# EAGLE library part MICROSD_SPI_MODE (library Molex SD-47309 SD Card Slot)
MOLEX - 49225-0821 - CONNECTEUR MICRO SD PUSH/PUSH REV Fabricant: MOLEX Code commande Farnell: 1366700 <http://fr.farnell.com/molex/49225-0821/connecteur-micro-sd-push-push-rev/dp/1366700?Ntt=1366700> Référence fabricant: 49225-0821
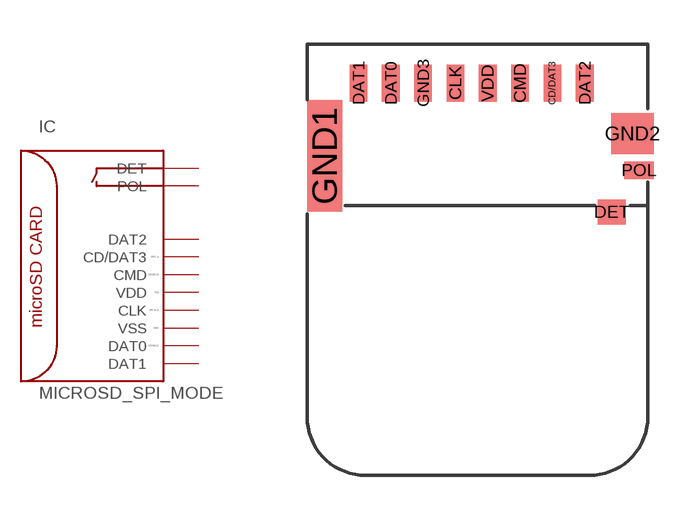
[diagram p0: symbol with the pads of MICRO_SD_CONNECTOR; footprint MICRO_SD_CONNECTOR]

Designator prefix IC

## MICROSD_SPI_MODE  [MICRO_SD_CONNECTOR]
CD/DAT3  CD/DAT3  in
CLK  CLK  in
CMD  CMD  in
DAT0  DAT0  out
DAT1  DAT1  nc
DAT2  DAT2  nc
DET  DET  hiz
GND1  VSS  pwr
GND2  VSS  pwr
GND3  VSS  pwr
POL  POL  hiz
VDD  VDD  pwr

## Footprint MICRO_SD_CONNECTOR (pad centres in mm)
smd 0.6 x 1.25: CD/DAT3 2.75,-1.33; CLK -0.55,-1.33; CMD 1.65,-1.33; DAT0 -2.75,-1.33; DAT1 -3.85,-1.33; DAT2 3.85,-1.33; GND3 -1.65,-1.33; VDD 0.55,-1.33
smd 0.95 x 0.85: DET 4.775,-5.723
smd 1.2 x 3.79: GND1 -5,-3.81
smd 1.45 x 1.4: GND2 5.475,-3.05
smd 1 x 0.6: POL 5.7,-4.3